# Altium schematic symbol library IND,56nH,340mA,Wirewound,0402.Schlib: 1 symbol
Pins are listed as number, name and electrical type; pins without a type are passive.

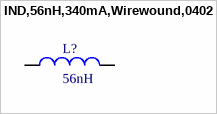
[diagram p0: symbol IND,56nH,340mA,Wirewound,0402]

## IND,56nH,340mA,Wirewound,0402
designator L?, comment 56nH
56 nH Unshielded Drum Core, Wirewound Inductor 340 mA 996mOhm Max 0402 (1005 Metric)
pins: 1, 2